# Altium schematic symbol library MSP430G2452IPW20R.SchLib: 1 symbol
Pins are listed as number, name and electrical type; pins without a type are passive.

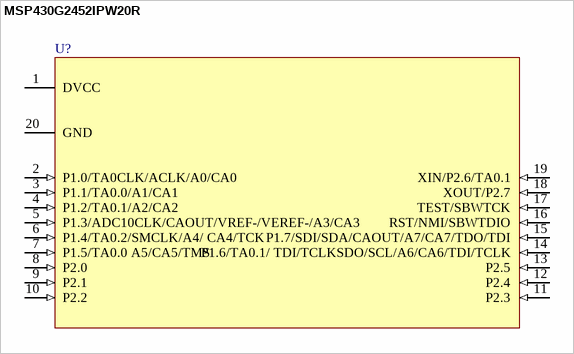
[diagram p0: symbol MSP430G2452IPW20R]

## MSP430G2452IPW20R
designator U?
ID: MSP430G2452IPW20R; PDF: http://www.ti.com/lit/ds/symlink/msp430g2112.pdf; PRICE: 2.01000; BUY_LINK: http://www.digikey.com/product-detail/en/MSP430G2452IPW20R/296-28127-1-ND/2514240
footprint TSSOP20
pins: 1 DVCC (power), 2 P1.0/TA0CLK/ACLK/A0/CA0 (in), 3 P1.1/TA0.0/A1/CA1 (in), 4 P1.2/TA0.1/A2/CA2 (in), 5 P1.3/ADC10CLK/CAOUT/VREF-/VEREF-/A3/CA3 (in), 6 P1.4/TA0.2/SMCLK/A4/ CA4/TCK (in), 7 P1.5/TA0.0 A5/CA5/TMS (in), 8 P2.0 (in), 9 P2.1 (in), 10 P2.2 (in), 11 P2.3 (in), 12 P2.4 (in), 13 P2.5 (in), 14 P1.6/TA0.1/ TDI/TCLKSDO/SCL/A6/CA6/TDI/TCLK (in), 15 P1.7/SDI/SDA/CAOUT/A7/CA7/TDO/TDI (in), 16 RST/NMI/SBWTDIO (in), 17 TEST/SBWTCK (in), 18 XOUT/P2.7 (in), 19 XIN/P2.6/TA0.1 (in), 20 GND (power)